# Altium schematic symbol library NRF.SchLib: 2 symbols
Pins are listed as number, name and electrical type; pins without a type are passive.

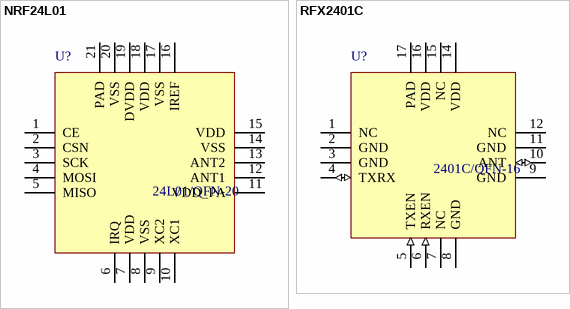
[diagram p0: symbols NRF24L01 to RFX2401C]

## NRF24L01
designator U?, comment 24L01/QFN-20
footprint NRF24L01
pins: 1 CE, 2 CSN, 3 SCK, 4 MOSI, 5 MISO, 6 IRQ, 7 VDD, 8 VSS, 9 XC2, 10 XC1, 11 VDD_PA, 12 ANT1, 13 ANT2, 14 VSS, 15 VDD, 16 IREF, 17 VSS, 18 VDD, 19 DVDD, 20 VSS, 21 PAD
2 alternate drawings of the same symbol

## RFX2401C
designator U?, comment 2401C/QFN-16
footprint RFX2401C
pins: 1 NC, 2 GND (power), 3 GND (power), 4 TXRX (io), 5 TXEN (in), 6 RXEN (in), 7 NC, 8 GND (power), 9 GND (power), 10 ANT (io), 11 GND (power), 12 NC, 14 VDD (power), 15 NC, 16 VDD (power), 17 PAD
2 alternate drawings of the same symbol